# Altium footprint library Schurter.PcbLib: 1 footprints
Each footprint in its own frame and in the unit in brackets; x right, y up, seen from the top. Pads: shape width x height; smd on the part's side, far side on the other; paste and mask are expansions set on the pad; w line width, h text height; cw(c..) or ccw(c..) is an arc to the next point about the centre after c.
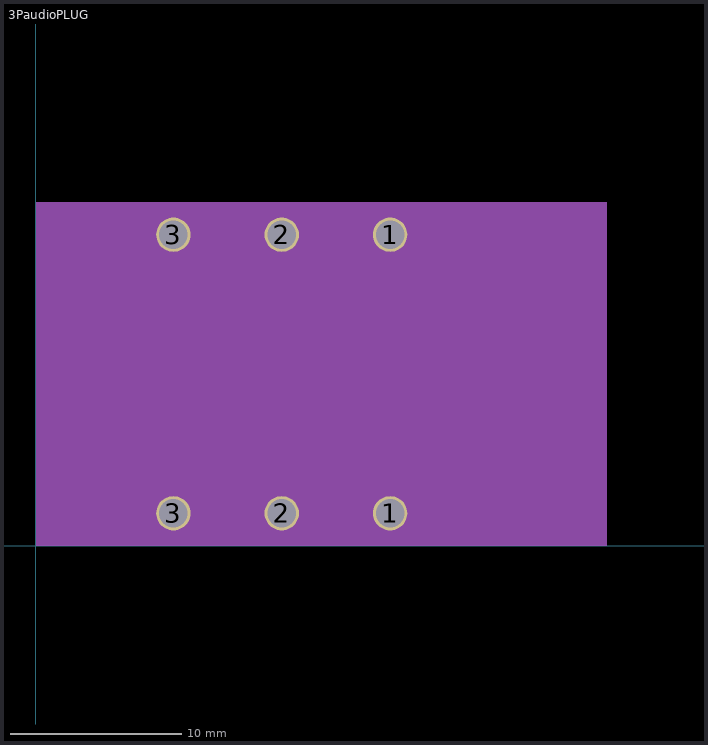
[diagram p0: the footprint, top view; thin cyan lines are the x and y axes]

## 3PaudioPLUG [mm]
pads (6):
  round 2 hole 1.65: 1(20.6,1.9) 1(20.6,18.1) 2(14.3,1.9) 2(14.3,18.1) 3(8,1.9) 3(8,18.1)
Mechanical 1:
  rectangle: 0,0 33.2,20
  region: 37,17